# EAGLE library part MODU16 (library lbm)
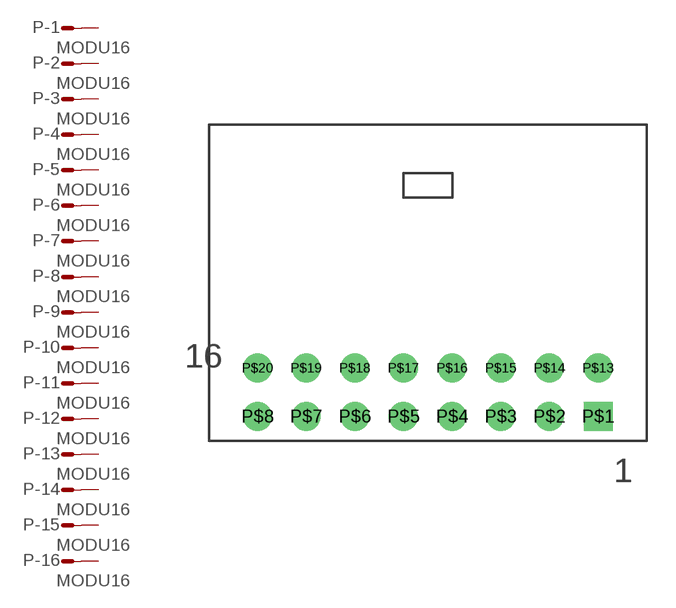
[diagram p5: symbol with the pads of MODU16; footprint MODU16]

Designator prefix P; gates -1=M -2=M -3=M -4=M -5=M -6=M -7=M -8=M -9=M -10=M -11=M -12=M -13=M -14=M -15=M -16=M

## MODU16  [MODU16]
P$1  -1:S  pas
P$2  -2:S  pas
P$3  -3:S  pas
P$4  -4:S  pas
P$5  -5:S  pas
P$6  -6:S  pas
P$7  -7:S  pas
P$8  -8:S  pas
P$13  -9:S  pas
P$14  -10:S  pas
P$15  -11:S  pas
P$16  -12:S  pas
P$17  -13:S  pas
P$18  -14:S  pas
P$19  -15:S  pas
P$20  -16:S  pas

## Footprint MODU16 (pad centres in mm)
drill 1 square: P$1 13.97,-5.08
drill 1 round: P$2 11.43,-5.08; P$3 8.89,-5.08; P$4 6.35,-5.08; P$5 3.81,-5.08; P$6 1.27,-5.08; P$7 -1.27,-5.08; P$8 -3.81,-5.08; P$13 13.97,-2.54; P$14 11.43,-2.54; P$15 8.89,-2.54; P$16 6.35,-2.54; P$17 3.81,-2.54; P$18 1.27,-2.54; P$19 -1.27,-2.54; P$20 -3.81,-2.54